# EAGLE library part WS5500_FREE_IO+PDI (library ehajo)
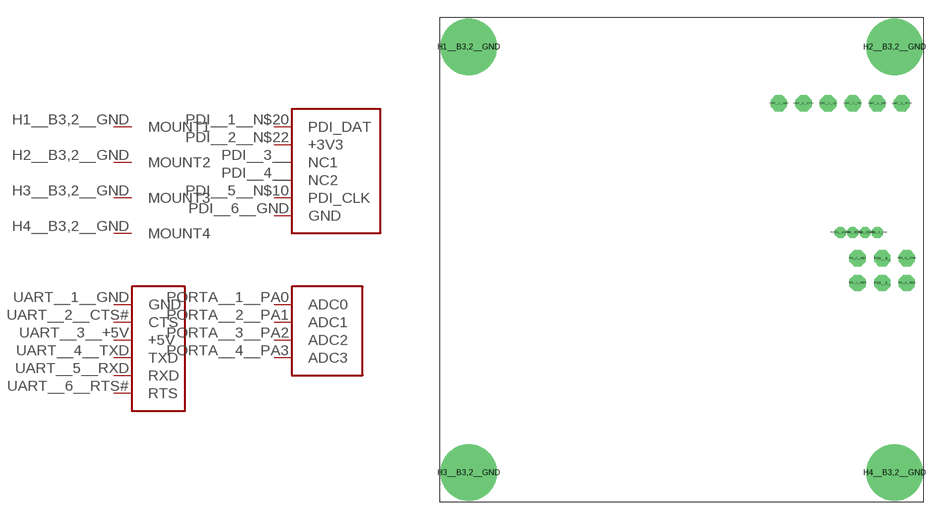
[diagram p0: symbol with the pads of W5500_FREE_IO+PDI; footprint W5500_FREE_IO+PDI]

Designator prefix -; gates G$1=WS5500_MOUNT G$2=WS5500_UART G$3=WS5500_ADC G$4=WS5500_PDI

## WS5500_FREE_IO+PDI  [W5500_FREE_IO+PDI]
H1__B3,2__GND  G$1:MOUNT1  pas
H2__B3,2__GND  G$1:MOUNT2  pas
H3__B3,2__GND  G$1:MOUNT3  pas
H4__B3,2__GND  G$1:MOUNT4  pas
PDI__1__N$20  G$4:PDI_DAT
PDI__2__N$22  G$4:+3V3  pwr
PDI__3__  G$4:NC1  pas
PDI__4__  G$4:NC2  pas
PDI__5__N$10  G$4:PDI_CLK  in
PDI__6__GND  G$4:GND  pwr
PORTA__1__PA0  G$3:ADC0
PORTA__2__PA1  G$3:ADC1
PORTA__3__PA2  G$3:ADC2
PORTA__4__PA3  G$3:ADC3
UART__1__GND  G$2:GND  pwr
UART__2__CTS#  G$2:CTS
UART__3__+5V  G$2:+5V  pwr
UART__4__TXD  G$2:TXD
UART__5__RXD  G$2:RXD
UART__6__RTS#  G$2:RTS

## Footprint W5500_FREE_IO+PDI (pad centres in mm)
drill 2.601 pad 4.748: H1__B3,2__GND 2.438,38.202; H2__B3,2__GND 38.202,38.202; H3__B3,2__GND 2.438,2.438; H4__B3,2__GND 38.202,2.438
drill 0.743 pad 1.363 octagon: PDI__1__N$20 35.097,18.374; PDI__2__N$22 35.097,20.439; PDI__3__ 37.161,18.374; PDI__4__ 37.161,20.439; PDI__5__N$10 39.226,18.374; PDI__6__GND 39.226,20.439; UART__1__GND 28.49,33.445; UART__2__CTS# 30.555,33.445; UART__3__+5V 32.619,33.445; UART__4__TXD 34.684,33.445; UART__5__RXD 36.748,33.445; UART__6__RTS# 38.813,33.445
drill 0.406 pad 0.819 octagon: PORTA__1__PA0 36.748,22.606; PORTA__2__PA1 35.716,22.606; PORTA__3__PA2 34.684,22.606; PORTA__4__PA3 33.652,22.606